# EAGLE library part ATSAMD21G18A-AU (library ATSAMD21G18A_AU)
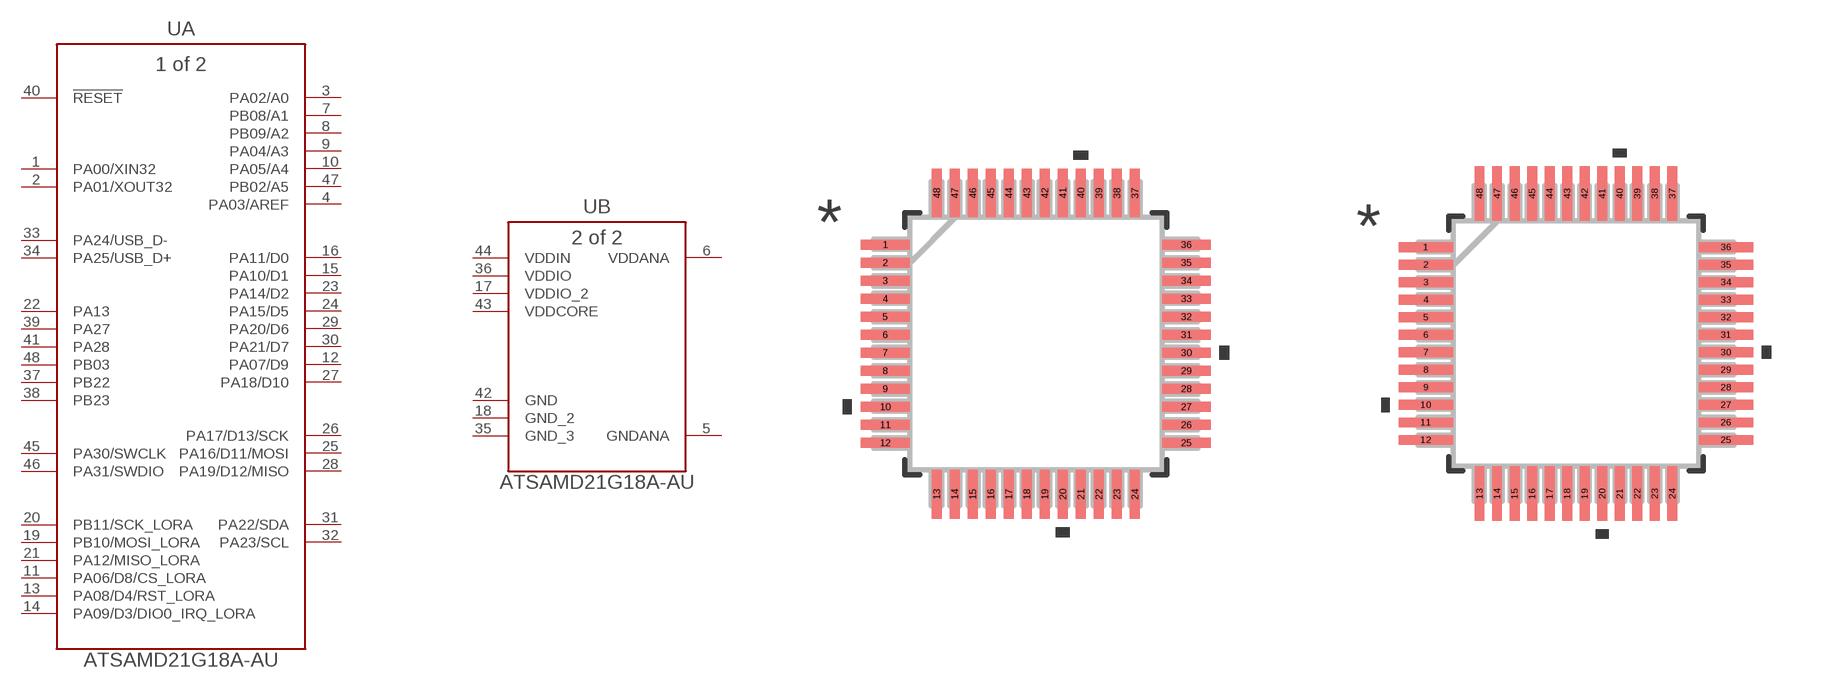
[diagram p0: symbol with the pads of TQFP48_7X7MC_MCH; footprints TQFP48_7X7MC_MCH, TQFP48_7X7MC_MCH-M]

Designator prefix U; gates A=ATSAMD21G18A-AU B=ATSAMD21G18A-AU_A

## ATSAMD21G18A-AU (BUILT_BY: EMA_Molly; COPYRIGHT: Copyright (C) 2018 Accelerated Designs. All rights reserved; MANUFACTURER_PART_NUMBER: ATSAMD21G18A-AU; SOURCELIBRARY: Microchip_2019-08-23_25; VENDOR: Microchip)  [TQFP48_7X7MC_MCH]
1  A:PA00/XIN32
2  A:PA01/XOUT32
3  A:PA02/A0
4  A:PA03/AREF
5  B:GNDANA  pas
6  B:VDDANA  pwr
7  A:PB08/A1
8  A:PB09/A2
9  A:PA04/A3
10  A:PA05/A4
11  A:PA06/D8/CS_LORA
12  A:PA07/D9
13  A:PA08/D4/RST_LORA
14  A:PA09/D3/DIO0_IRQ_LORA
15  A:PA10/D1
16  A:PA11/D0
17  B:VDDIO_2  pwr
18  B:GND_2  pas
19  A:PB10/MOSI_LORA
20  A:PB11/SCK_LORA
21  A:PA12/MISO_LORA
22  A:PA13
23  A:PA14/D2
24  A:PA15/D5
25  A:PA16/D11/MOSI
26  A:PA17/D13/SCK
27  A:PA18/D10
28  A:PA19/D12/MISO
29  A:PA20/D6
30  A:PA21/D7
31  A:PA22/SDA
32  A:PA23/SCL
33  A:PA24/USB_D-
34  A:PA25/USB_D+
35  B:GND_3  pas
36  B:VDDIO  pwr
37  A:PB22
38  A:PB23
39  A:PA27
40  A:!RESET  pas
41  A:PA28
42  B:GND  pas
43  B:VDDCORE  pwr
44  B:VDDIN  pwr
45  A:PA30/SWCLK
46  A:PA31/SWDIO
47  A:PB02/A5
48  A:PB03

## ATSAMD21G18A-AUTQFP48_7X7MC_MCH-M (BUILT_BY: EMA_Molly; COPYRIGHT: Copyright (C) 2018 Accelerated Designs. All rights reserved; MANUFACTURER_PART_NUMBER: ATSAMD21G18A-AU; SOURCELIBRARY: Microchip_2019-08-23_25; VENDOR: Microchip)  [TQFP48_7X7MC_MCH-M]
Pads as for TQFP48_7X7MC_MCH

## ATSAMD21G18A-AUTQFP48_7X7MC_MCH-L (BUILT_BY: EMA_Molly; COPYRIGHT: Copyright (C) 2018 Accelerated Designs. All rights reserved; MANUFACTURER_PART_NUMBER: ATSAMD21G18A-AU; SOURCELIBRARY: Microchip_2019-08-23_25; VENDOR: Microchip)  [TQFP48_7X7MC_MCH-L]
Pads as for TQFP48_7X7MC_MCH

## Footprint TQFP48_7X7MC_MCH (pad centres in mm)
smd 1.346 x 0.279: 1 -4.178,2.75; 2 -4.178,2.25; 3 -4.178,1.75; 4 -4.178,1.25; 5 -4.178,0.75; 6 -4.178,0.25; 7 -4.178,-0.25; 8 -4.178,-0.75; 9 -4.178,-1.25; 10 -4.178,-1.75; 11 -4.178,-2.25; 12 -4.178,-2.75; 25 4.178,-2.75; 26 4.178,-2.25; 27 4.178,-1.75; 28 4.178,-1.25; 29 4.178,-0.75; 30 4.178,-0.25; 31 4.178,0.25; 32 4.178,0.75; 33 4.178,1.25; 34 4.178,1.75; 35 4.178,2.25; 36 4.178,2.75
smd 0.279 x 1.346: 13 -2.75,-4.178; 14 -2.25,-4.178; 15 -1.75,-4.178; 16 -1.25,-4.178; 17 -0.75,-4.178; 18 -0.25,-4.178; 19 0.25,-4.178; 20 0.75,-4.178; 21 1.25,-4.178; 22 1.75,-4.178; 23 2.25,-4.178; 24 2.75,-4.178; 37 2.75,4.178; 38 2.25,4.178; 39 1.75,4.178; 40 1.25,4.178; 41 0.75,4.178; 42 0.25,4.178; 43 -0.25,4.178; 44 -0.75,4.178; 45 -1.25,4.178; 46 -1.75,4.178; 47 -2.25,4.178; 48 -2.75,4.178

## Footprint TQFP48_7X7MC_MCH-M (pad centres in mm)
smd 1.549 x 0.279: 1 -4.28,2.75; 2 -4.28,2.25; 3 -4.28,1.75; 4 -4.28,1.25; 5 -4.28,0.75; 6 -4.28,0.25; 7 -4.28,-0.25; 8 -4.28,-0.75; 9 -4.28,-1.25; 10 -4.28,-1.75; 11 -4.28,-2.25; 12 -4.28,-2.75; 25 4.28,-2.75; 26 4.28,-2.25; 27 4.28,-1.75; 28 4.28,-1.25; 29 4.28,-0.75; 30 4.28,-0.25; 31 4.28,0.25; 32 4.28,0.75; 33 4.28,1.25; 34 4.28,1.75; 35 4.28,2.25; 36 4.28,2.75
smd 0.279 x 1.549: 13 -2.75,-4.28; 14 -2.25,-4.28; 15 -1.75,-4.28; 16 -1.25,-4.28; 17 -0.75,-4.28; 18 -0.25,-4.28; 19 0.25,-4.28; 20 0.75,-4.28; 21 1.25,-4.28; 22 1.75,-4.28; 23 2.25,-4.28; 24 2.75,-4.28; 37 2.75,4.28; 38 2.25,4.28; 39 1.75,4.28; 40 1.25,4.28; 41 0.75,4.28; 42 0.25,4.28; 43 -0.25,4.28; 44 -0.75,4.28; 45 -1.25,4.28; 46 -1.75,4.28; 47 -2.25,4.28; 48 -2.75,4.28

## Footprint TQFP48_7X7MC_MCH-L (pad centres in mm)
smd 1.143 x 0.229: 1 -4.077,2.75; 2 -4.077,2.25; 3 -4.077,1.75; 4 -4.077,1.25; 5 -4.077,0.75; 6 -4.077,0.25; 7 -4.077,-0.25; 8 -4.077,-0.75; 9 -4.077,-1.25; 10 -4.077,-1.75; 11 -4.077,-2.25; 12 -4.077,-2.75; 25 4.077,-2.75; 26 4.077,-2.25; 27 4.077,-1.75; 28 4.077,-1.25; 29 4.077,-0.75; 30 4.077,-0.25; 31 4.077,0.25; 32 4.077,0.75; 33 4.077,1.25; 34 4.077,1.75; 35 4.077,2.25; 36 4.077,2.75
smd 0.229 x 1.143: 13 -2.75,-4.077; 14 -2.25,-4.077; 15 -1.75,-4.077; 16 -1.25,-4.077; 17 -0.75,-4.077; 18 -0.25,-4.077; 19 0.25,-4.077; 20 0.75,-4.077; 21 1.25,-4.077; 22 1.75,-4.077; 23 2.25,-4.077; 24 2.75,-4.077; 37 2.75,4.077; 38 2.25,4.077; 39 1.75,4.077; 40 1.25,4.077; 41 0.75,4.077; 42 0.25,4.077; 43 -0.25,4.077; 44 -0.75,4.077; 45 -1.25,4.077; 46 -1.75,4.077; 47 -2.25,4.077; 48 -2.75,4.077